# Altium footprint library PcbLib.PcbLib: 39 footprints (part 2 of 3)
Each footprint in its own frame and in the unit in brackets; x right, y up, seen from the top. Pads: shape width x height; smd on the part's side, far side on the other; paste and mask are expansions set on the pad; w line width, h text height; cw(c..) or ccw(c..) is an arc to the next point about the centre after c.
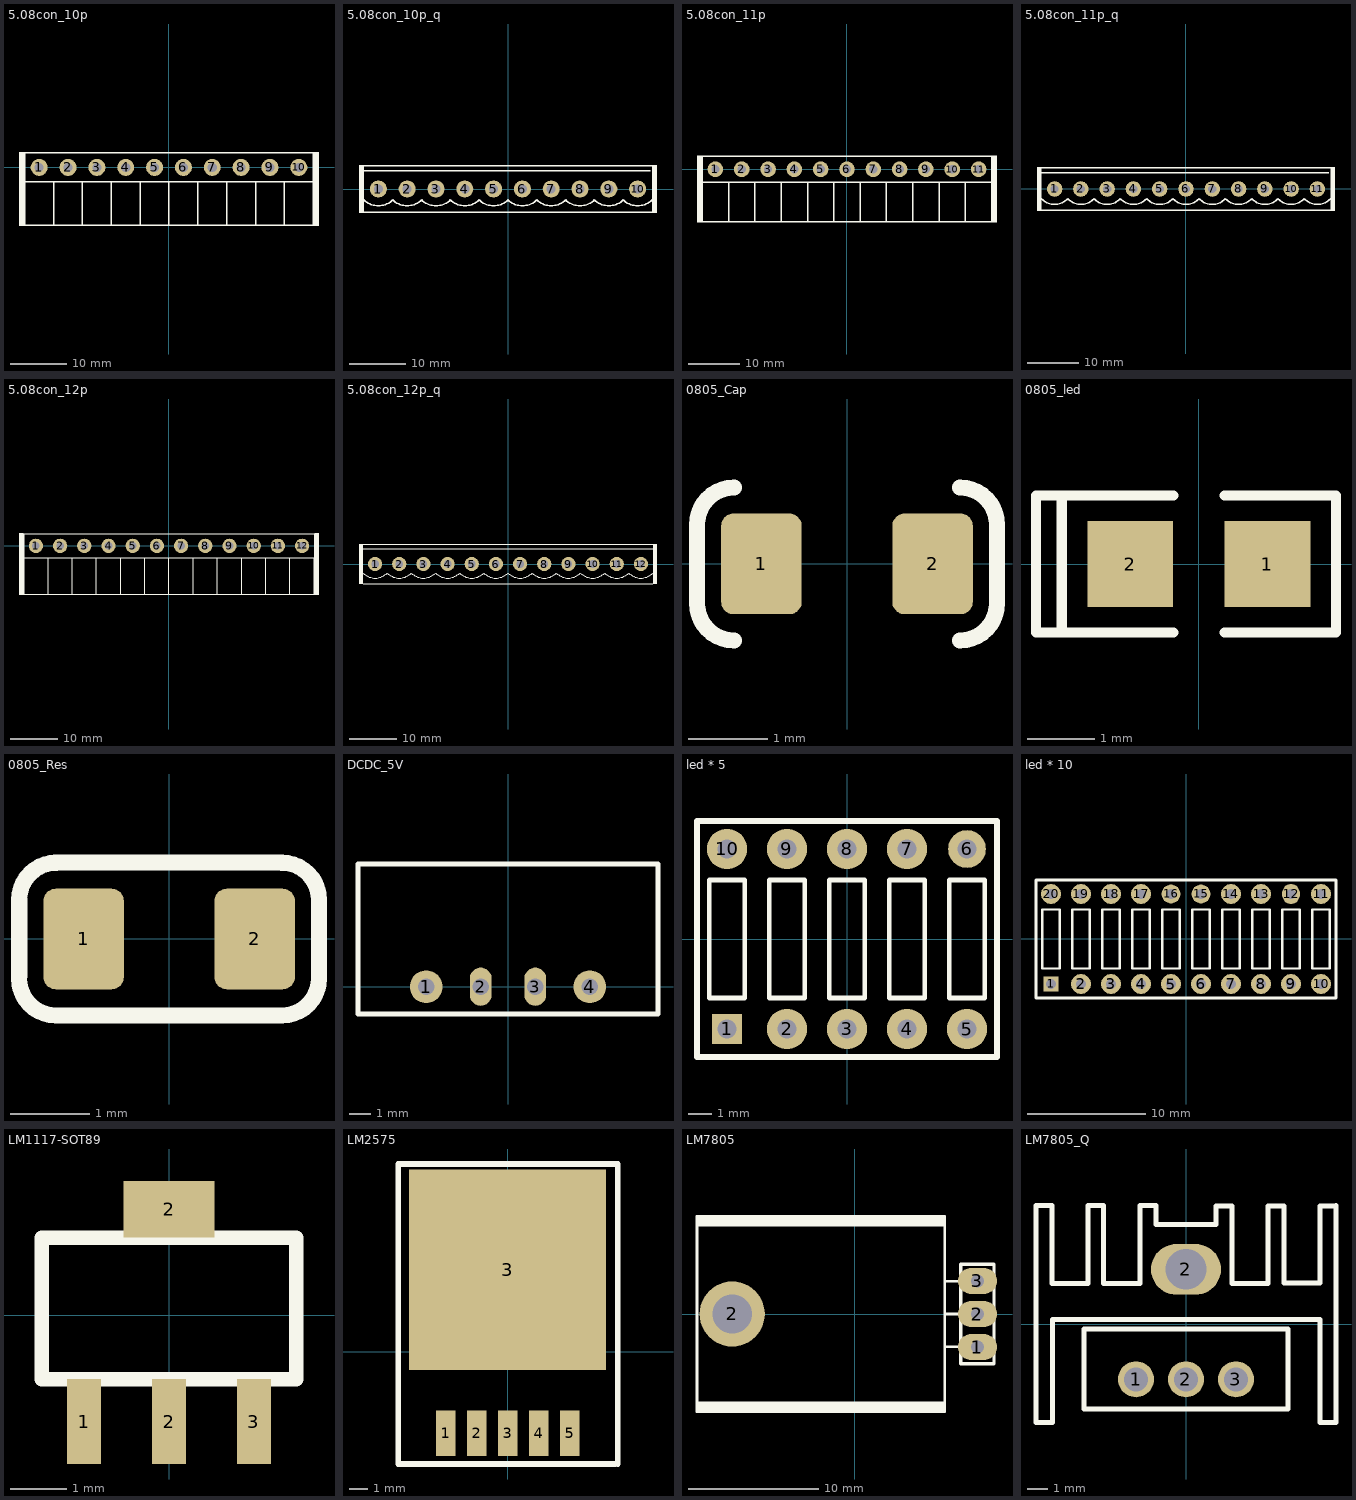
[diagram p1: the footprints below, top view; thin cyan lines are the x and y axes]

## 5.08con_10p [mm]
pads (10):
  round 3 hole 1.6: 1(-22.86,0) 2(-17.78,0) 3(-12.7,0) 4(-7.62,0) 5(-2.54,0) 6(2.54,0) 7(7.62,0) 8(12.7,0) 9(17.78,0) 10(22.86,0)
Top Overlay:
  region: -25.451,2.667 -26.416,2.667 -26.416,-10.287 -25.451,-10.287
  rectangle: 25.451,-10.287 26.416,2.667
  lines w0.254: -20.32,-10.16 -20.32,-2.54 ; -15.24,-10.16 -15.24,-2.54 ; -10.16,-10.16 -10.16,-2.54 ; -5.08,-10.16 -5.08,-2.54 ; 0,-10.16 0,-2.54 ; 5.08,-10.16 5.08,-2.54 ; 10.16,-10.16 10.16,-2.54 ; 15.24,-10.16 15.24,-2.54 ; 20.32,-10.16 20.32,-2.54 ; -25.4,-10.16 25.4,-10.16 25.4,-2.54 ; -25.4,-10.16 -25.4,2.54 25.4,2.54 25.4,-2.54 ; -25.4,-10.16 -25.4,-2.54 25.4,-2.54

## 5.08con_10p_q [mm]
pads (10):
  round 3 hole 1.6: 1(-22.86,0) 2(-17.78,0) 3(-12.7,0) 4(-7.62,0) 5(-2.54,0) 6(2.54,0) 7(7.62,0) 8(12.7,0) 9(17.78,0) 10(22.86,0)
Top Overlay:
  region: -25.4,4.255 -26.27,4.255 -26.27,-4.255 -25.4,-4.255
  rectangle: 25.4,-4.255 26.27,4.255
  lines w0.254: -25.4,-4.127 -15.24,-4.127 -10.16,-4.127 -5.08,-4.127 0,-4.127 5.08,-4.127 10.16,-4.127 15.24,-4.127 20.32,-4.127 25.4,-4.127 ; -25.4,-1.905 ccw(c-22.86,0.635) -20.32,-1.905 ccw(c-17.78,0.635) -15.24,-1.905 ccw(c-12.7,0.635) -10.16,-1.905 ccw(c-7.62,0.635) -5.08,-1.905 ccw(c-2.54,0.635) 0,-1.905 ccw(c2.54,0.635) 5.08,-1.905 ccw(c7.62,0.635) 10.16,-1.905 ccw(c12.7,0.635) 15.24,-1.905 ccw(c17.78,0.635) 20.32,-1.905 ccw(c22.86,0.635) 25.4,-1.905 ; -25.4,3.175 -15.24,3.175 -10.477,3.175 -10.16,3.175 -5.397,3.175 ; -25.4,4.127 -15.24,4.127 -10.16,4.127 -5.08,4.127 0,4.127 5.08,4.127 10.16,4.127 15.24,4.127 20.32,4.127 25.4,4.127 ; 25.082,3.175 20.32,3.175 ; -5.397,3.175 -5.08,3.175 ; -5.397,3.175 -5.08,3.175 ; -5.08,3.175 -0.318,3.175 ; -0.318,3.175 0,3.175 ; -0.318,3.175 0,3.175 ; -0.318,3.175 0,3.175 ; 0,3.175 4.763,3.175 ; 4.763,3.175 5.08,3.175 ; 4.763,3.175 5.08,3.175 ; 4.763,3.175 5.08,3.175 ; 4.763,3.175 5.08,3.175 ; 5.08,3.175 9.842,3.175 ; 9.842,3.175 10.16,3.175 ; 9.842,3.175 10.16,3.175 ; 9.842,3.175 10.16,3.175 ; 9.842,3.175 10.16,3.175 ; 9.842,3.175 10.16,3.175 ; 10.16,3.175 14.922,3.175 ; 14.922,3.175 15.24,3.175 ; 14.922,3.175 15.24,3.175 ; 14.922,3.175 15.24,3.175 ; 14.922,3.175 15.24,3.175 ; 14.922,3.175 15.24,3.175 ; 15.24,3.175 20.002,3.175 ; 20.002,3.175 20.32,3.175 ; 20.002,3.175 20.32,3.175 ; 20.002,3.175 20.32,3.175 ; 20.002,3.175 20.32,3.175 ; 20.002,3.175 20.32,3.175

## 5.08con_11p [mm]
pads (11):
  round 3 hole 1.6: 1(-25.4,0) 2(-20.32,0) 3(-15.24,0) 4(-10.16,0) 5(-5.08,0) 6(0,0) 7(5.08,0) 8(10.16,0) 9(15.24,0) 10(20.32,0) 11(25.4,0)
Top Overlay:
  rectangle: 27.991,-10.287 28.956,2.667
  region: -27.991,2.667 -28.956,2.667 -28.956,-10.287 -27.991,-10.287
  lines w0.254: -22.86,-10.16 -22.86,-2.54 ; -17.78,-10.16 -17.78,-2.54 ; -12.7,-10.16 -12.7,-2.54 ; -7.62,-10.16 -7.62,-2.54 ; -2.54,-10.16 -2.54,-2.54 ; 2.54,-10.16 2.54,-2.54 ; 7.62,-10.16 7.62,-2.54 ; 12.7,-10.16 12.7,-2.54 ; 17.78,-10.16 17.78,-2.54 ; 22.86,-10.16 22.86,-2.54 ; 27.94,-5.08 27.94,2.54 -27.94,2.54 -27.94,-10.16 ; -27.94,-10.16 27.94,-10.16 27.94,-2.54 -27.94,-2.54 -27.94,-10.16

## 5.08con_11p_q [mm]
pads (11):
  round 3 hole 1.6: 1(-25.4,0) 2(-20.32,0) 3(-15.24,0) 4(-10.16,0) 5(-5.08,0) 6(0,0) 7(5.08,0) 8(10.16,0) 9(15.24,0) 10(20.32,0) 11(25.4,0)
Top Overlay:
  region: -27.94,4.255 -28.81,4.255 -28.81,-4.255 -27.94,-4.255
  rectangle: 27.94,-4.255 28.81,4.255
  lines w0.254: -27.94,-4.127 -17.78,-4.127 -12.7,-4.127 -7.62,-4.127 -2.54,-4.127 2.54,-4.127 7.62,-4.127 12.7,-4.127 17.78,-4.127 22.86,-4.127 27.94,-4.127 ; -27.94,-1.905 ccw(c-25.4,0.635) -22.86,-1.905 ccw(c-20.32,0.635) -17.78,-1.905 ccw(c-15.24,0.635) -12.7,-1.905 ccw(c-10.16,0.635) -7.62,-1.905 ccw(c-5.08,0.635) -2.54,-1.905 ccw(c0,0.635) 2.54,-1.905 ccw(c5.08,0.635) 7.62,-1.905 ccw(c10.16,0.635) 12.7,-1.905 ccw(c15.24,0.635) 17.78,-1.905 ccw(c20.32,0.635) 22.86,-1.905 ccw(c25.4,0.635) 27.94,-1.905 ; -27.94,3.175 -17.78,3.175 -13.018,3.175 -12.7,3.175 -7.938,3.175 ; -27.94,4.127 -17.78,4.127 -12.7,4.127 -7.62,4.127 -2.54,4.127 2.54,4.127 7.62,4.127 12.7,4.127 17.78,4.127 22.86,4.127 27.94,4.127 ; 27.622,3.175 22.86,3.175 ; -7.938,3.175 -7.62,3.175 ; -7.938,3.175 -7.62,3.175 ; -7.62,3.175 -2.857,3.175 ; -2.857,3.175 -2.54,3.175 ; -2.857,3.175 -2.54,3.175 ; -2.857,3.175 -2.54,3.175 ; -2.54,3.175 2.222,3.175 ; 2.222,3.175 2.54,3.175 ; 2.222,3.175 2.54,3.175 ; 2.222,3.175 2.54,3.175 ; 2.222,3.175 2.54,3.175 ; 2.54,3.175 7.302,3.175 ; 7.302,3.175 7.62,3.175 ; 7.302,3.175 7.62,3.175 ; 7.302,3.175 7.62,3.175 ; 7.302,3.175 7.62,3.175 ; 7.302,3.175 7.62,3.175 ; 7.62,3.175 12.383,3.175 ; 12.383,3.175 12.7,3.175 ; 12.383,3.175 12.7,3.175 ; 12.383,3.175 12.7,3.175 ; 12.383,3.175 12.7,3.175 ; 12.383,3.175 12.7,3.175 ; 12.7,3.175 17.462,3.175 ; 17.462,3.175 17.78,3.175 ; 17.462,3.175 17.78,3.175 ; 17.462,3.175 17.78,3.175 ; 17.462,3.175 17.78,3.175 ; 17.462,3.175 17.78,3.175 ; 17.78,3.175 22.543,3.175 ; 22.543,3.175 22.86,3.175 ; 22.543,3.175 22.86,3.175 ; 22.543,3.175 22.86,3.175 ; 22.543,3.175 22.86,3.175 ; 22.543,3.175 22.86,3.175

## 5.08con_12p [mm]
pads (12):
  round 3 hole 1.6: 1(-27.94,0) 2(-22.86,0) 3(-17.78,0) 4(-12.7,0) 5(-7.62,0) 6(-2.54,0) 7(2.54,0) 8(7.62,0) 9(12.7,0) 10(17.78,0) 11(22.86,0) 12(27.94,0)
Top Overlay:
  rectangle: 30.531,-10.287 31.496,2.667
  region: -30.531,2.667 -31.496,2.667 -31.496,-10.287 -30.531,-10.287
  lines w0.254: -25.4,-10.16 -25.4,-2.54 ; -20.32,-10.16 -20.32,-2.54 ; -15.24,-10.16 -15.24,-2.54 ; -10.16,-10.16 -10.16,-2.54 ; -5.08,-10.16 -5.08,-2.54 ; 0,-10.16 0,-2.54 ; 5.08,-10.16 5.08,-2.54 ; 10.16,-10.16 10.16,-2.54 ; 15.24,-10.16 15.24,-2.54 ; 20.32,-10.16 20.32,-2.54 ; 25.4,-10.16 25.4,-2.54 ; -30.48,-10.16 -30.48,-2.54 30.48,-2.54 ; -30.48,-10.16 -30.48,2.54 30.48,2.54 30.48,-10.16 ; -30.48,-10.16 30.48,-10.16 ; 30.48,-10.16 30.48,-2.54 ; 30.48,-10.16 30.48,-2.54

## 5.08con_12p_q [mm]
pads (12):
  round 3 hole 1.6: 1(-27.94,0) 2(-22.86,0) 3(-17.78,0) 4(-12.7,0) 5(-7.62,0) 6(-2.54,0) 7(2.54,0) 8(7.62,0) 9(12.7,0) 10(17.78,0) 11(22.86,0) 12(27.94,0)
Top Overlay:
  rectangle: 30.48,-4.255 31.35,4.255
  region: -30.48,4.255 -31.35,4.255 -31.35,-4.255 -30.48,-4.255
  lines w0.254: -30.48,-4.127 -20.32,-4.127 -15.24,-4.127 -10.16,-4.127 -5.08,-4.127 0,-4.127 5.08,-4.127 10.16,-4.127 15.24,-4.127 20.32,-4.127 25.4,-4.127 30.48,-4.127 ; -30.48,-1.905 ccw(c-27.94,0.635) -25.4,-1.905 ccw(c-22.86,0.635) -20.32,-1.905 ccw(c-17.78,0.635) -15.24,-1.905 ccw(c-12.7,0.635) -10.16,-1.905 ccw(c-7.62,0.635) -5.08,-1.905 ccw(c-2.54,0.635) 0,-1.905 ccw(c2.54,0.635) 5.08,-1.905 ccw(c7.62,0.635) 10.16,-1.905 ccw(c12.7,0.635) 15.24,-1.905 ccw(c17.78,0.635) 20.32,-1.905 ccw(c22.86,0.635) 25.4,-1.905 ccw(c27.94,0.635) 30.48,-1.905 ; -30.48,3.175 -20.32,3.175 -15.557,3.175 -15.24,3.175 -10.477,3.175 ; -30.48,4.127 -20.32,4.127 -15.24,4.127 -10.16,4.127 -5.08,4.127 0,4.127 5.08,4.127 10.16,4.127 15.24,4.127 20.32,4.127 25.4,4.127 30.48,4.127 ; 31.115,3.175 25.4,3.175 ; -10.477,3.175 -10.16,3.175 ; -10.477,3.175 -10.16,3.175 ; -10.16,3.175 -5.397,3.175 ; -5.397,3.175 -5.08,3.175 ; -5.397,3.175 -5.08,3.175 ; -5.397,3.175 -5.08,3.175 ; -5.08,3.175 -0.318,3.175 ; -0.318,3.175 0,3.175 ; -0.318,3.175 0,3.175 ; -0.318,3.175 0,3.175 ; -0.318,3.175 0,3.175 ; 0,3.175 4.763,3.175 ; 4.763,3.175 5.08,3.175 ; 4.763,3.175 5.08,3.175 ; 4.763,3.175 5.08,3.175 ; 4.763,3.175 5.08,3.175 ; 4.763,3.175 5.08,3.175 ; 5.08,3.175 9.842,3.175 ; 9.842,3.175 10.16,3.175 ; 9.842,3.175 10.16,3.175 ; 9.842,3.175 10.16,3.175 ; 9.842,3.175 10.16,3.175 ; 9.842,3.175 10.16,3.175 ; 10.16,3.175 14.922,3.175 ; 14.922,3.175 15.24,3.175 ; 14.922,3.175 15.24,3.175 ; 14.922,3.175 15.24,3.175 ; 14.922,3.175 15.24,3.175 ; 14.922,3.175 15.24,3.175 ; 15.24,3.175 20.002,3.175 ; 20.002,3.175 20.32,3.175 ; 20.002,3.175 20.32,3.175 ; 20.002,3.175 20.32,3.175 ; 20.002,3.175 20.32,3.175 ; 20.002,3.175 20.32,3.175 ; 20.32,3.175 25.082,3.175 ; 25.082,3.175 25.4,3.175 ; 25.082,3.175 25.4,3.175 ; 25.082,3.175 25.4,3.175 ; 25.082,3.175 25.4,3.175 ; 25.082,3.175 25.4,3.175

## 0805_Cap [mil]
pads (2):
  rrect30% 40x50 smd: 1(-42.5,0) 2(42.5,0)
Top Overlay:
  lines w8: -74.5,-19.59 ccw(c-56.09,-19.59) -56.09,-38 ; -74.5,-18.59 -74.5,18.5 ; -74.5,19.5 cw(c-56.09,19.5) -56.09,37.91 ; 56.09,-38 ccw(c56.09,-19.59) 74.5,-19.59 ; 56.09,37.91 cw(c56.09,19.5) 74.5,19.5 ; 74.5,-18.59 74.5,18.5

## 0805_led [mil]
pads (2):
  rect 50x50 smd: 1(40,0) 2(-40,0)
Top Overlay:
  lines w6: -80,-40 -80,40 ; -15,-40 -95,-40 -95,40 -15,40 ; 15,-40 80,-40 80,40 15,40

## 0805_Res [mil]
pads (2):
  rrect30% 40x50 smd: 1(-42.5,0) 2(42.5,0)
Top Overlay:
  lines w8: -74.61,-19.59 ccw(c-56.2,-19.59) -56.2,-38 ; -74.5,-18.5 -74.5,18.5 ; -74.5,19.5 cw(c-56.09,19.5) -56.09,37.91 ; -56.62,38 55.59,38 ; -55.2,-38 55.61,-38 ; 56.09,-38 ccw(c56.09,-19.59) 74.5,-19.59 ; 56.09,37.91 cw(c56.09,19.5) 74.5,19.5 ; 74.5,-18.59 74.5,18.5

## DCDC_5V [mil]
pads (4):
  round 60 hole 30: 1(-150,0) 4(150,0)
  oval 40x70 hole 30: 2(-50,0) 3(50,0)
Top Overlay:
  lines w10: -275,-50 -275,225 275,225 275,-50 -275,-50

## led * 5 [mm]
pads (10):
  rect 1.27x1.27 hole 0.813: 1(-5.08,-3.81)
  round 1.7 hole 0.813: 2(-2.54,-3.81) 3(0,-3.81) 4(2.54,-3.81) 5(5.08,-3.81) 7(2.54,3.81) 8(0,3.81) 9(-2.54,3.81) 10(-5.08,3.81)
  round 1.6 hole 0.813: 6(5.08,3.81)
Top Overlay:
  lines w0.2: -5.83,-2.5 -5.83,2.5 -4.33,2.5 -4.33,-2.5 -5.83,-2.5 ; -3.29,-2.5 -1.79,-2.5 -1.79,2.5 -3.29,2.5 -3.29,-2.5 ; -0.75,-2.5 0.75,-2.5 0.75,2.5 -0.75,2.5 -0.75,-2.5 ; 1.79,-2.5 3.29,-2.5 3.29,2.5 1.79,2.5 1.79,-2.5 ; 4.33,-2.5 4.33,2.5 5.83,2.5 5.83,-2.5 4.33,-2.5
  lines w0.254: -6.35,-5 -6.35,5 6.35,5 6.35,-5 -6.35,-5

## led * 10 [mm]
pads (20):
  rect 1.27x1.27 hole 0.813: 1(-11.43,-3.81)
  round 1.7 hole 0.813: 2(-8.89,-3.81) 3(-6.35,-3.81) 4(-3.81,-3.81) 5(-1.27,-3.81) 6(1.27,-3.81) 7(3.81,-3.81) 8(6.35,-3.81) 9(8.89,-3.81) 10(11.43,-3.81) 11(11.43,3.81) 13(6.35,3.81) 14(3.81,3.81) 17(-3.81,3.81) 18(-6.35,3.81) 19(-8.89,3.81) 20(-11.43,3.81)
  oval 1.5x1.7 hole 0.813: 12(8.89,3.81)
  round 1.6 hole 0.813: 15(1.27,3.81) 16(-1.27,3.81)
Top Overlay:
  lines w0.2: -12.18,-2.5 -12.18,2.5 -10.68,2.5 -10.68,-2.5 -12.18,-2.5 ; -9.64,-2.5 -8.14,-2.5 -8.14,2.5 -9.64,2.5 -9.64,-2.5 ; -7.1,-2.5 -5.6,-2.5 -5.6,2.5 -7.1,2.5 -7.1,-2.5 ; -4.56,-2.5 -3.06,-2.5 -3.06,2.5 -4.56,2.5 -4.56,-2.5 ; -2.02,-2.5 -2.02,2.5 -0.52,2.5 -0.52,-2.5 -2.02,-2.5 ; 0.52,-2.5 0.52,2.5 2.02,2.5 2.02,-2.5 0.52,-2.5 ; 3.06,-2.5 4.56,-2.5 4.56,2.5 3.06,2.5 3.06,-2.5 ; 5.6,-2.5 5.6,2.5 7.1,2.5 7.1,-2.5 5.6,-2.5 ; 8.14,-2.5 8.14,2.5 9.64,2.5 9.64,-2.5 8.14,-2.5 ; 10.68,-2.5 12.18,-2.5 12.18,2.5 10.68,2.5 10.68,-2.5
  lines w0.254: -12.7,-5 -12.7,5 12.7,5 12.7,-5 -12.7,-5

## LM1117-SOT89 [mm]
pads (4):
  rect 0.6x1.5 smd: 1(-1.5,-1.875) 2(0,-1.875) 3(1.5,-1.875)
  rect 1.6x1 smd: 2(0,1.875)
Top Overlay:
  lines w0.254: -2.25,-1.125 -2.25,1.375 2.25,1.375 2.25,-1.125 -2.25,-1.125

## LM2575 [mm]
pads (6):
  rect 1.07x2.5 smd: 1(-3.4,-4.492) 2(-1.7,-4.492) 3(0,-4.492) 4(1.7,-4.492) 5(3.4,-4.492)
  rect 10.8x11 smd: 3(0,4.492)
Top Overlay:
  lines w0.127: 6.045,10.283 ccw(c6.045,10.283) 6.045,10.283
  lines w0.305: 5.893,-6.168 -5.994,-6.168 -5.994,-4.492 -5.994,10.283 6.045,10.283 6.045,-6.168

## LM7805 [mm]
pads (4):
  oval 3x2 hole 1: 1(9.4,-2.54) 2(9.4,0) 3(9.4,2.54)
  round 5 hole 3: 2(-9.4,0)
Top Overlay:
  region: 6.9,7.499 -12.1,7.499 -12.1,6.699 6.9,6.699
  rectangle: -12.1,-7.499 6.9,-6.699
  lines w0.2: 6.9,2.5 8.13,2.5 ; 7,-2.5 8.13,-2.5 ; 7,0 8.13,0 ; -12.1,7.5 6.9,7.5 ; -12.1,7.5 6.9,7.5 ; -12.1,7.5 -12.1,-7.5 6.9,-7.5 6.9,7.5
  lines w0.254: 8.13,-3.81 8.13,3.81 10.67,3.81 10.67,-3.81 8.13,-3.81

## LM7805_Q [mm]
pads (4):
  round 1.8 / inner round 1.8 / far side oval 1.8x3 hole 1.2: 1(-2.5,-2.75) 2(0,-2.75) 3(2.5,-2.75)
  oval 3.5x2.54 hole 2.032: 2(0,2.75)
Top Overlay:
  lines w0.254: -7.5,5.91 -7.5,-4.9 -6.68,-4.9 -6.68,-4.86 ; -7.5,5.93 -6.7,5.93 -6.7,2.05 -4.91,2.05 -4.91,5.93 -4.12,5.93 -4.12,2.05 -2.31,2.05 -2.31,5.93 -1.5,5.93 -1.5,5 1.51,5 1.51,5.91 2.29,5.91 2.29,2.05 4.1,2.05 4.1,5.92 4.89,5.92 4.89,2.06 6.69,2.06 6.69,5.91 7.49,5.91 ; -6.68,-4.87 -6.68,0.24 6.7,0.24 6.7,-4.9 7.5,-4.9 7.5,5.93 ; -5.1,-0.23 5.1,-0.23 5.1,-4.24 -5.09,-4.24 -5.09,-0.24